# Altium schematic symbol library 212520-1004.SchLib: 1 symbol
Pins are listed as number, name and electrical type; pins without a type are passive.

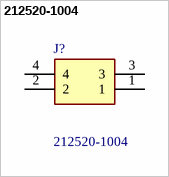
[diagram p0: symbol 212520-1004]

## 212520-1004
designator J?
Mini-Fit Max Vertical Header, Dual Row, 4 Circuits, Tin (Sn) Plating, Black; Manufacturer_Name: Molex; Geometry.Height: 13.85mm; TME Electronic Components Part Number: *; TME Electronic Components Price/Stock: *; Manufacturer_Part_Number: 212520-1004; Datasheet Link: https://www.molex.com/pdm_docs/sd/2125201006_sd.pdf
footprint 2125201004
pins: 1, 2, 3, 4